# Altium footprint library Vowstar_Switch.PcbLib: 19 footprints (part 2 of 2)
Each footprint in its own frame and in the unit in brackets; x right, y up, seen from the top. Pads: shape width x height; smd on the part's side, far side on the other; paste and mask are expansions set on the pad; w line width, h text height; cw(c..) or ccw(c..) is an arc to the next point about the centre after c.
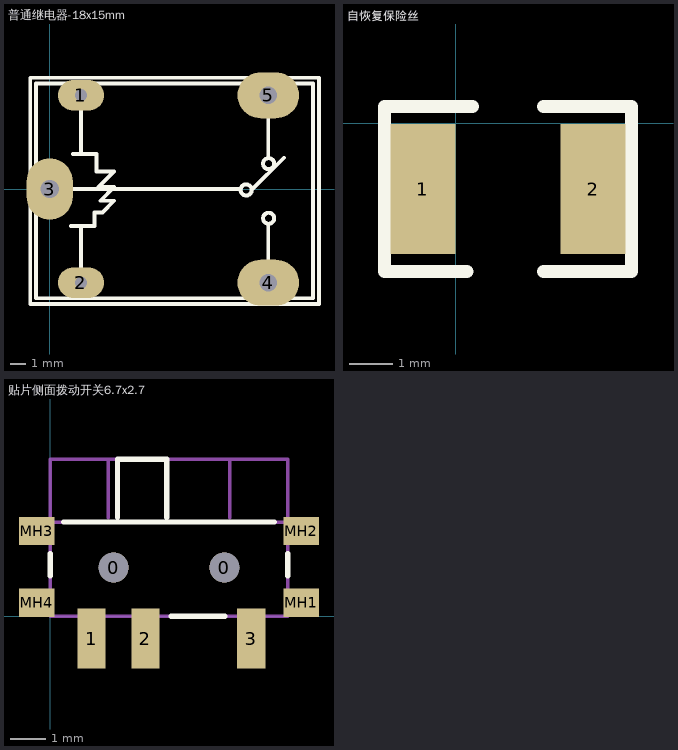
[diagram p1: the footprints below, top view; thin cyan lines are the x and y axes]

## 普通继电器-18x15mm [mm] "继电器"
height 15
pads (5):
  oval 3x2 hole 0.8: 1(2.032,6.096) 2(2.032,-6.096)
  oval 3x4 hole 1.2: 3(0,0)
  oval 4x3 hole 1.15: 4(14.224,-6.096) 5(14.224,6.096)
Top Overlay:
  circle w0.254: c14.246,1.651 r0.359
  circle w0.254: c14.246,-1.905 r0.359
  circle w0.254: c12.785,-0.064 r0.359
  lines w0.254: 0,0 12.319,0 ; 1.397,-2.413 2.921,-2.413 2.921,-1.524 3.429,-1.524 4.191,-0.762 3.302,-0.762 4.191,0.127 3.175,0.127 4.191,1.143 3.048,1.143 3.048,2.286 1.524,2.286 ; 2.032,-6.096 2.032,-2.54 ; 2.032,2.413 2.032,6.096 ; 13.144,-0.064 15.24,2.032 ; 14.224,-6.096 14.224,-2.413 ; 14.224,2.159 14.224,6.096 ; -1.27,-7.493 -1.27,7.239 17.526,7.239 17.526,-7.493 -1.27,-7.493 ; -0.889,-7.112 17.145,-7.112 17.145,6.858 -0.889,6.858 -0.889,-7.112
3D body: height 0, standoff -3, extent -0.254,-0.254 0.254,0.254
3D body: height 0, standoff -3, extent 1.778,-6.35 2.286,-5.842
3D body: height 0, standoff -3, extent 1.778,5.842 2.286,6.35
3D body: height 0, standoff -3, extent 13.97,-6.35 14.478,-5.842
3D body: height 0, standoff -3, extent 13.97,5.842 14.478,6.35
3D body: height 15, standoff 0, extent -1.397,-7.62 17.78,7.493

## 自恢复保险丝 [mm] "自恢复保险丝"
height 0.9
pads (2):
  rect 1.5x3 smd: 1(-0.762,-1.524) 2(3.175,-1.524)
Top Overlay:
  lines w0.305: 0.254,-3.429 -1.651,-3.429 -1.651,0.381 0.381,0.381 ; 2.032,-3.429 4.064,-3.429 4.064,0.381 2.032,0.381
3D body: height 0.7, standoff 0, extent -0.635,-3.048 3.048,0

## 贴片侧面拨动开关6.7x2.7 [mm] "贴片侧面拨动开关"
height 1.5
pads (9):
  round 0.85 hole 0.85: 0(1.8,1.38) 0(4.931,1.38)
  rect 0.8x1.7 smd: 1(1.174,-0.635) 2(2.7,-0.635) 3(5.694,-0.635)
  rect 1x0.8 smd: MH1(7.112,0.381) MH2(7.112,2.413) MH3(-0.381,2.413) MH4(-0.381,0.381)
Top Overlay:
  lines w0.15: 0,1.143 0,1.778 ; 0.381,2.667 6.35,2.667 ; 1.905,2.794 1.905,4.445 3.302,4.445 3.302,2.794 ; 3.429,0 4.953,0 ; 6.731,1.143 6.731,1.778
Mechanical 13:
  lines w0.1: 0.127,2.667 6.604,2.667 ; 1.651,2.794 1.651,4.445 ; 5.08,2.794 5.08,4.445 ; 0,0 0,4.445 6.731,4.445 6.731,0 0,0
3D body: height 0.1, standoff 0, extent 0.889,-1.27 1.524,0.127
3D body: height 0.1, standoff 0, extent 2.413,-1.27 3.048,0.127
3D body: height 0.1, standoff 0, extent 5.334,-1.27 5.969,0.127
3D body: height 0.1, standoff 0, extent -0.825,2.096 0.064,2.731
3D body: height 0.1, standoff 0, extent -0.825,0.064 0.064,0.699
3D body: height 0.1, standoff 0, extent 6.668,2.096 7.557,2.731
3D body: height 0.1, standoff 0, extent 6.668,0.064 7.557,0.699
3D body: height 1.4, standoff 0, extent 0,0 6.731,2.667
3D body: height 1.5, standoff 0, extent 1.905,2.667 3.302,4.445
3D body: height 1.5, standoff 1.4, extent 0,0 6.731,2.667